# Altium footprint library R-2-SC.PcbLib: 1 footprints
Each footprint in its own frame and in the unit in brackets; x right, y up, seen from the top. Pads: shape width x height; smd on the part's side, far side on the other; paste and mask are expansions set on the pad; w line width, h text height; cw(c..) or ccw(c..) is an arc to the next point about the centre after c.
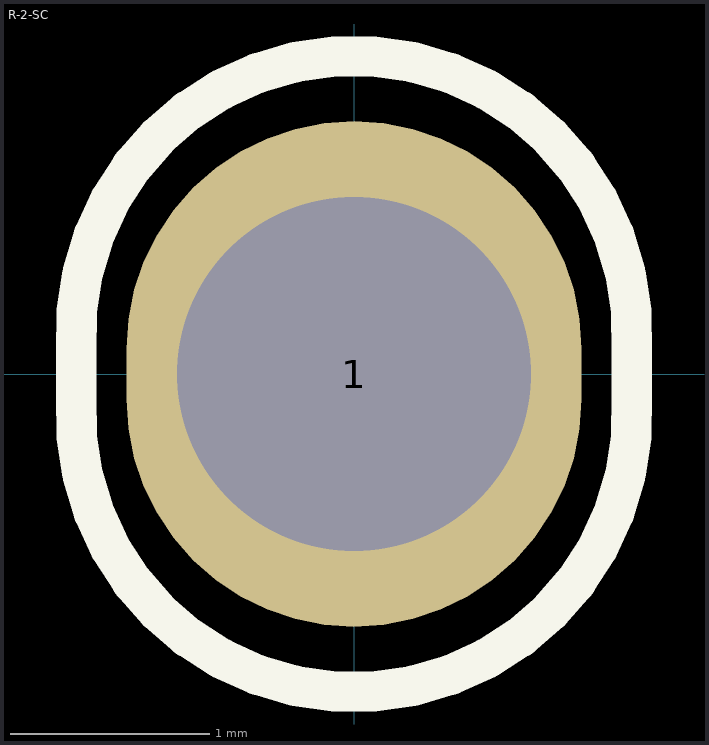
[diagram p0: the footprint, top view; thin cyan lines are the x and y axes]

## R-2-SC [mil]
pads (1):
  oval 90x100 hole 70: 1(0,0)
Top Overlay:
  lines w8: -54.88,-5.65 -54.88,4.36 cw(c0,7.92) 54.88,4.36 54.88,-5.65 ; -54.88,-4.36 ccw(c0,-7.92) 54.88,-4.36